# Altium footprint library BME280.PcbLib: 1 footprints
Each footprint in its own frame and in the unit in brackets; x right, y up, seen from the top. Pads: shape width x height; smd on the part's side, far side on the other; paste and mask are expansions set on the pad; w line width, h text height; cw(c..) or ccw(c..) is an arc to the next point about the centre after c.
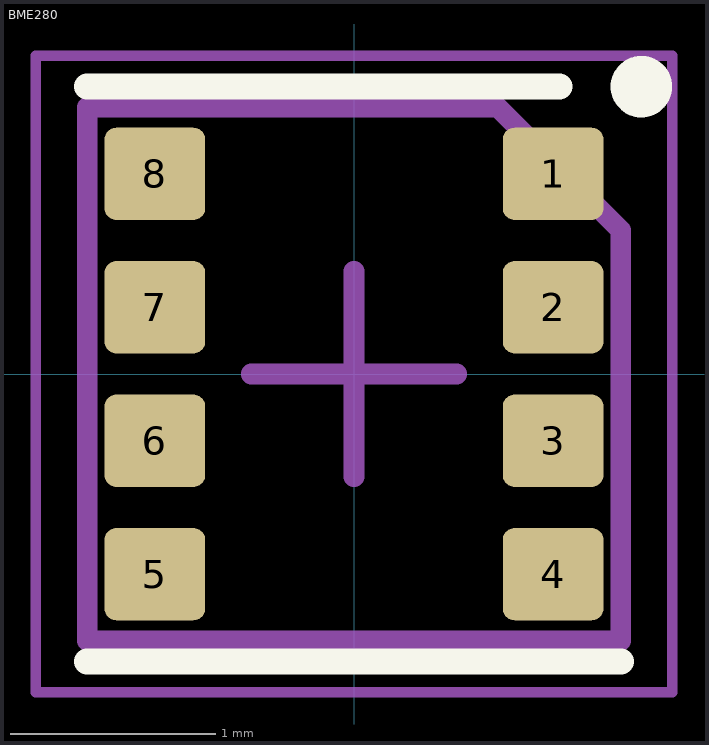
[diagram p0: the footprint, top view; thin cyan lines are the x and y axes]

## BME280 [mm]
pads (8):
  rrect25% 0.49x0.45 smd: 1(0.97,0.975) 2(0.97,0.325) 3(0.97,-0.325) 4(0.97,-0.975) 5(-0.97,-0.975) 6(-0.97,-0.325) 7(-0.97,0.325) 8(-0.97,0.975)
Top Overlay:
  circle w0.2: c1.4,1.4 r0.05
  lines w0.127: -1.3,-1.4 1.3,-1.4 ; -1.3,1.4 1,1.4
Mechanical 1:
  lines w0.1: -1.3,-1.3 1.3,-1.3 1.3,0.7 0.7,1.3 -1.3,1.3 -1.3,-1.3
  text ".Designator" at -1.125,-0.158 h0.65
Mechanical 2:
  lines w0.05: -1.55,-1.55 -1.55,1.55 1.55,1.55 1.55,-1.55 -1.55,-1.55
  lines w0.1: -0.5,0 0.5,0 ; 0,-0.5 0,0.5
3D body "BME280--3DModel-STEP-56544.STEP": height 1, standoff 0, extent -1.25,-1.25 1.25,1.25